# Altium schematic symbol library SCH - ARM CORTEX - STM STM32F070RBTx.SchLib: 1 symbol
Pins are listed as number, name and electrical type; pins without a type are passive.

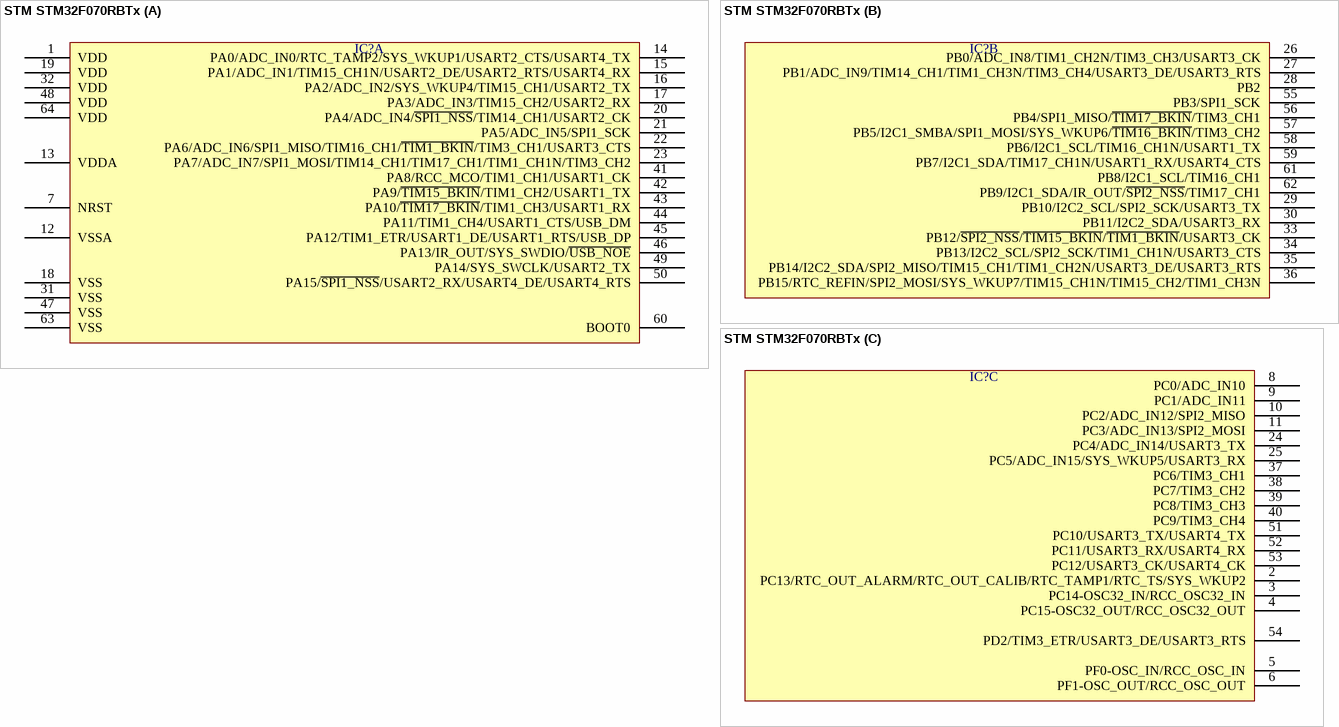
[diagram p0: symbol STM STM32F070RBTx]

## STM STM32F070RBTx
designator IC?  (value not drawn)
part A pins: 1 VDD, 7 NRST, 12 VSSA, 13 VDDA, 14 PA0/ADC_IN0/RTC_TAMP2/SYS_WKUP1/USART2_CTS/USART4_TX, 15 PA1/ADC_IN1/TIM15_CH1N/USART2_DE/USART2_RTS/USART4_RX, 16 PA2/ADC_IN2/SYS_WKUP4/TIM15_CH1/USART2_TX, 17 PA3/ADC_IN3/TIM15_CH2/USART2_RX, 18 VSS, 19 VDD, 20 PA4/ADC_IN4/~{SPI1_NSS}/TIM14_CH1/USART2_CK, 21 PA5/ADC_IN5/SPI1_SCK, 22 PA6/ADC_IN6/SPI1_MISO/TIM16_CH1/~{TIM1_BKIN}/TIM3_CH1/USART3_CTS, 23 PA7/ADC_IN7/SPI1_MOSI/TIM14_CH1/TIM17_CH1/TIM1_CH1N/TIM3_CH2, 31 VSS, 32 VDD, 41 PA8/RCC_MCO/TIM1_CH1/USART1_CK, 42 PA9/~{TIM15_BKIN}/TIM1_CH2/USART1_TX, 43 PA10/~{TIM17_BKIN}/TIM1_CH3/USART1_RX, 44 PA11/TIM1_CH4/USART1_CTS/USB_DM, 45 PA12/TIM1_ETR/USART1_DE/USART1_RTS/USB_DP, 46 PA13/IR_OUT/SYS_SWDIO/~{USB_NOE}, 47 VSS, 48 VDD, 49 PA14/SYS_SWCLK/USART2_TX, 50 PA15/~{SPI1_NSS}/USART2_RX/USART4_DE/USART4_RTS, 60 BOOT0, 63 VSS, 64 VDD
part B pins: 26 PB0/ADC_IN8/TIM1_CH2N/TIM3_CH3/USART3_CK, 27 PB1/ADC_IN9/TIM14_CH1/TIM1_CH3N/TIM3_CH4/USART3_DE/USART3_RTS, 28 PB2, 29 PB10/I2C2_SCL/SPI2_SCK/USART3_TX, 30 PB11/I2C2_SDA/USART3_RX, 33 PB12/~{SPI2_NSS}/~{TIM15_BKIN}/~{TIM1_BKIN}/USART3_CK, 34 PB13/I2C2_SCL/SPI2_SCK/TIM1_CH1N/USART3_CTS, 35 PB14/I2C2_SDA/SPI2_MISO/TIM15_CH1/TIM1_CH2N/USART3_DE/USART3_RTS, 36 PB15/RTC_REFIN/SPI2_MOSI/SYS_WKUP7/TIM15_CH1N/TIM15_CH2/TIM1_CH3N, 55 PB3/SPI1_SCK, 56 PB4/SPI1_MISO/~{TIM17_BKIN}/TIM3_CH1, 57 PB5/I2C1_SMBA/SPI1_MOSI/SYS_WKUP6/~{TIM16_BKIN}/TIM3_CH2, 58 PB6/I2C1_SCL/TIM16_CH1N/USART1_TX, 59 PB7/I2C1_SDA/TIM17_CH1N/USART1_RX/USART4_CTS, 61 PB8/I2C1_SCL/TIM16_CH1, 62 PB9/I2C1_SDA/IR_OUT/~{SPI2_NSS}/TIM17_CH1
part C pins: 2 PC13/RTC_OUT_ALARM/RTC_OUT_CALIB/RTC_TAMP1/RTC_TS/SYS_WKUP2, 3 PC14-OSC32_IN/RCC_OSC32_IN, 4 PC15-OSC32_OUT/RCC_OSC32_OUT, 5 PF0-OSC_IN/RCC_OSC_IN, 6 PF1-OSC_OUT/RCC_OSC_OUT, 8 PC0/ADC_IN10, 9 PC1/ADC_IN11, 10 PC2/ADC_IN12/SPI2_MISO, 11 PC3/ADC_IN13/SPI2_MOSI, 24 PC4/ADC_IN14/USART3_TX, 25 PC5/ADC_IN15/SYS_WKUP5/USART3_RX, 37 PC6/TIM3_CH1, 38 PC7/TIM3_CH2, 39 PC8/TIM3_CH3, 40 PC9/TIM3_CH4, 51 PC10/USART3_TX/USART4_TX, 52 PC11/USART3_RX/USART4_RX, 53 PC12/USART3_CK/USART4_CK, 54 PD2/TIM3_ETR/USART3_DE/USART3_RTS